# Altium footprint library 64 LQFP (LH).PcbLib: 1 footprints
Each footprint in its own frame and in the unit in brackets; x right, y up, seen from the top. Pads: shape width x height; smd on the part's side, far side on the other; paste and mask are expansions set on the pad; w line width, h text height; cw(c..) or ccw(c..) is an arc to the next point about the centre after c.
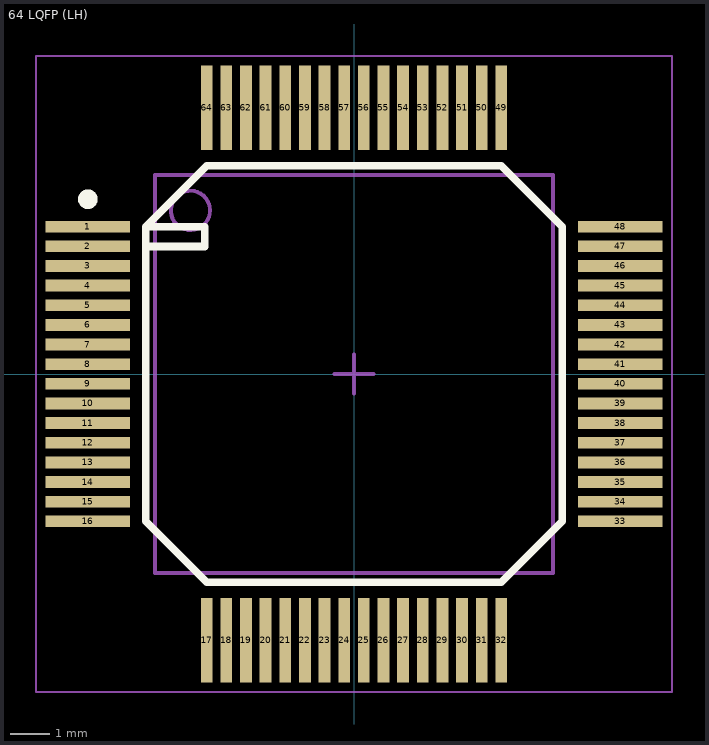
[diagram p0: the footprint, top view; thin cyan lines are the x and y axes]

## 64 LQFP (LH) [mm]
height 1.6
pads (64):
  rect 2.15x0.3 smd: 1(-6.775,3.75) 2(-6.775,3.25) 3(-6.775,2.75) 4(-6.775,2.25) 5(-6.775,1.75) 6(-6.775,1.25) 7(-6.775,0.75) 8(-6.775,0.25) 9(-6.775,-0.25) 10(-6.775,-0.75) 11(-6.775,-1.25) 12(-6.775,-1.75) 13(-6.775,-2.25) 14(-6.775,-2.75) 15(-6.775,-3.25) 16(-6.775,-3.75) 33(6.775,-3.75) 34(6.775,-3.25) 35(6.775,-2.75) 36(6.775,-2.25) 37(6.775,-1.75) 38(6.775,-1.25) 39(6.775,-0.75) 40(6.775,-0.25) 41(6.775,0.25) 42(6.775,0.75) 43(6.775,1.25) 44(6.775,1.75) 45(6.775,2.25) 46(6.775,2.75) 47(6.775,3.25) 48(6.775,3.75)
  rect 0.3x2.15 smd: 17(-3.75,-6.775) 18(-3.25,-6.775) 19(-2.75,-6.775) 20(-2.25,-6.775) 21(-1.75,-6.775) 22(-1.25,-6.775) 23(-0.75,-6.775) 24(-0.25,-6.775) 25(0.25,-6.775) 26(0.75,-6.775) 27(1.25,-6.775) 28(1.75,-6.775) 29(2.25,-6.775) 30(2.75,-6.775) 31(3.25,-6.775) 32(3.75,-6.775) 49(3.75,6.775) 50(3.25,6.775) 51(2.75,6.775) 52(2.25,6.775) 53(1.75,6.775) 54(1.25,6.775) 55(0.75,6.775) 56(0.25,6.775) 57(-0.25,6.775) 58(-0.75,6.775) 59(-1.25,6.775) 60(-1.75,6.775) 61(-2.25,6.775) 62(-2.75,6.775) 63(-3.25,6.775) 64(-3.75,6.775)
Top Overlay:
  circle w0.25: c-6.775,4.45 r0.125
  lines w0.2: -5.3,3.25 -3.8,3.25 -3.8,3.75 -5.3,3.75 ; -5.3,3.75 -3.75,5.3 3.75,5.3 5.3,3.75 5.3,-3.75 3.75,-5.3 -3.75,-5.3 -5.3,-3.75 -5.3,3.75
Mechanical 13:
  circle w0.1: c-4.165,4.165 r0.5
  lines w0.1: -5.065,-5.065 5.065,-5.065 5.065,5.065 -5.065,5.065 -5.065,-5.065
Mechanical 15:
  lines w0.05: -8.1,-8.1 8.1,-8.1 8.1,8.1 -8.1,8.1 -8.1,-8.1
  lines w0.1: -0.5,0 0.5,0 ; 0,-0.5 0,0.5
3D body "64 LQFP (LH).step": height 1.5, standoff 0, extent -7.475,-7.475 7.475,7.475